# Altium integrated library Laser.IntLib: 1 symbol
Pins are listed as number, name and electrical type; pins without a type are passive.

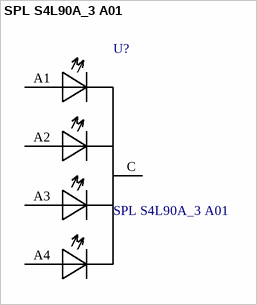
[diagram p0: symbol SPL S4L90A_3 A01]

## SPL S4L90A_3 A01
designator U?
Laser Diode 908nm 145W 11V 40A 5-SMD, No Lead; Manufacture: OSRAM Opto Semiconductors Inc.; Name: Лазер; Case: 5-SMD, No Lead; HelpURL: https://www.digikey.com/en/products/detail/osram-opto-semiconductors-inc/SPL-S4L90A-3-A01/13541188?s=N4IgTCBcDaIMoAUAyACOAWJBOADAQQH0BmFPHARhAF0BfIA; Value: SPL S4L90A_3 A01; Model: SPL S4L90A_3 A01
footprint 5-SMD
pins: A1, A2, A3, A4, C